# Altium footprint library S100 Memory Dumper.PcbLib: 3 footprints
Each footprint in its own frame and in the unit in brackets; x right, y up, seen from the top. Pads: shape width x height; smd on the part's side, far side on the other; paste and mask are expansions set on the pad; w line width, h text height; cw(c..) or ccw(c..) is an arc to the next point about the centre after c.
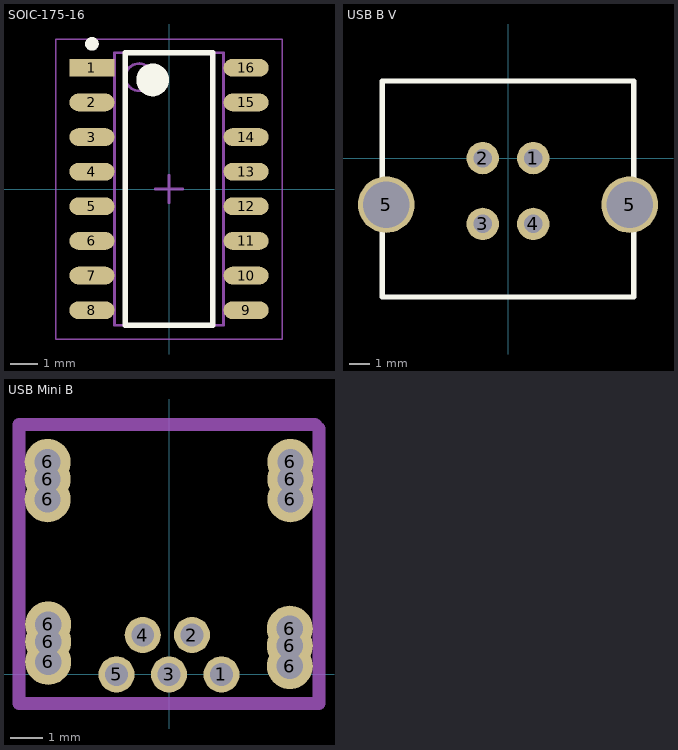
[diagram p0: the footprints below, top view; thin cyan lines are the x and y axes]

## SOIC-175-16 [mm] "SOIC, 16-Leads, Body 9.90x3.90mm, Pitch 1.27mm, IPC Low Density"
height 1.75
pads (16):
  rect 1.65x0.65 smd: 1(-2.825,4.445)
  oval 1.65x0.65 smd: 2(-2.825,3.175) 3(-2.825,1.905) 4(-2.825,0.635) 5(-2.825,-0.635) 6(-2.825,-1.905) 7(-2.825,-3.175) 8(-2.825,-4.445) 9(2.825,-4.445) 10(2.825,-3.175) 11(2.825,-1.905) 12(2.825,-0.635) 13(2.825,0.635) 14(2.825,1.905) 15(2.825,3.175) 16(2.825,4.445)
Top Overlay:
  circle w0.6: c-0.6,4 r0.3
  circle w0.25: c-2.825,5.32 r0.125
  lines w0.2: -1.6,-5 1.6,-5 1.6,5 -1.6,5 -1.6,-5
Top Assembly:
  circle w0.1: c-1.1,4.1 r0.5
  lines w0.1: -2,-5 2,-5 2,5 -2,5 -2,-5
Top Courtyard:
  lines w0.05: -4.15,-5.5 4.15,-5.5 4.15,5.5 -4.15,5.5 -4.15,-5.5
  lines w0.1: -0.5,0 0.5,0 ; 0,-0.5 0,0.5
3D body "SOIC127P600X175-16M.step": height 1.75, standoff 0, extent -3,-5 3,5

## USB B V [mm]
pads (6):
  round 1.6 hole 0.92: 1(1.25,0) 2(-1.25,0) 3(-1.25,-3.25) 4(1.25,-3.25)
  round 2.8 hole 2.3: 5(-6.02,-2.3) 5(6.02,-2.3)
Top Overlay:
  lines w0.254: -6.223,-6.858 -6.223,3.81 6.223,3.81 6.223,-6.858 -6.223,-6.858

## USB Mini B [mm]
pads (17):
  round 1.1 hole 0.7: 1(1.6,0) 2(0.7,1.2) 3(0,0) 4(-0.8,1.2) 5(-1.6,0)
  round 1.4 hole 0.8: 6(-3.7,5.334) 6(-3.7,5.95) 6(-3.7,6.477) 6(-3.683,0.381) 6(-3.683,0.997) 6(-3.683,1.524) 6(3.683,0.254) 6(3.683,0.87) 6(3.683,1.397) 6(3.7,5.334) 6(3.7,5.95) 6(3.7,6.477)
Mechanical 1:
  lines w0.4: -4.572,-0.889 -4.572,7.62 4.445,7.62 4.572,7.493 4.572,-0.889 -4.572,-0.889